# Altium footprint library cftkb.PcbLib: 28 footprints (part 2 of 2)
Each footprint in its own frame and in the unit in brackets; x right, y up, seen from the top. Pads: shape width x height; smd on the part's side, far side on the other; paste and mask are expansions set on the pad; w line width, h text height; cw(c..) or ccw(c..) is an arc to the next point about the centre after c.
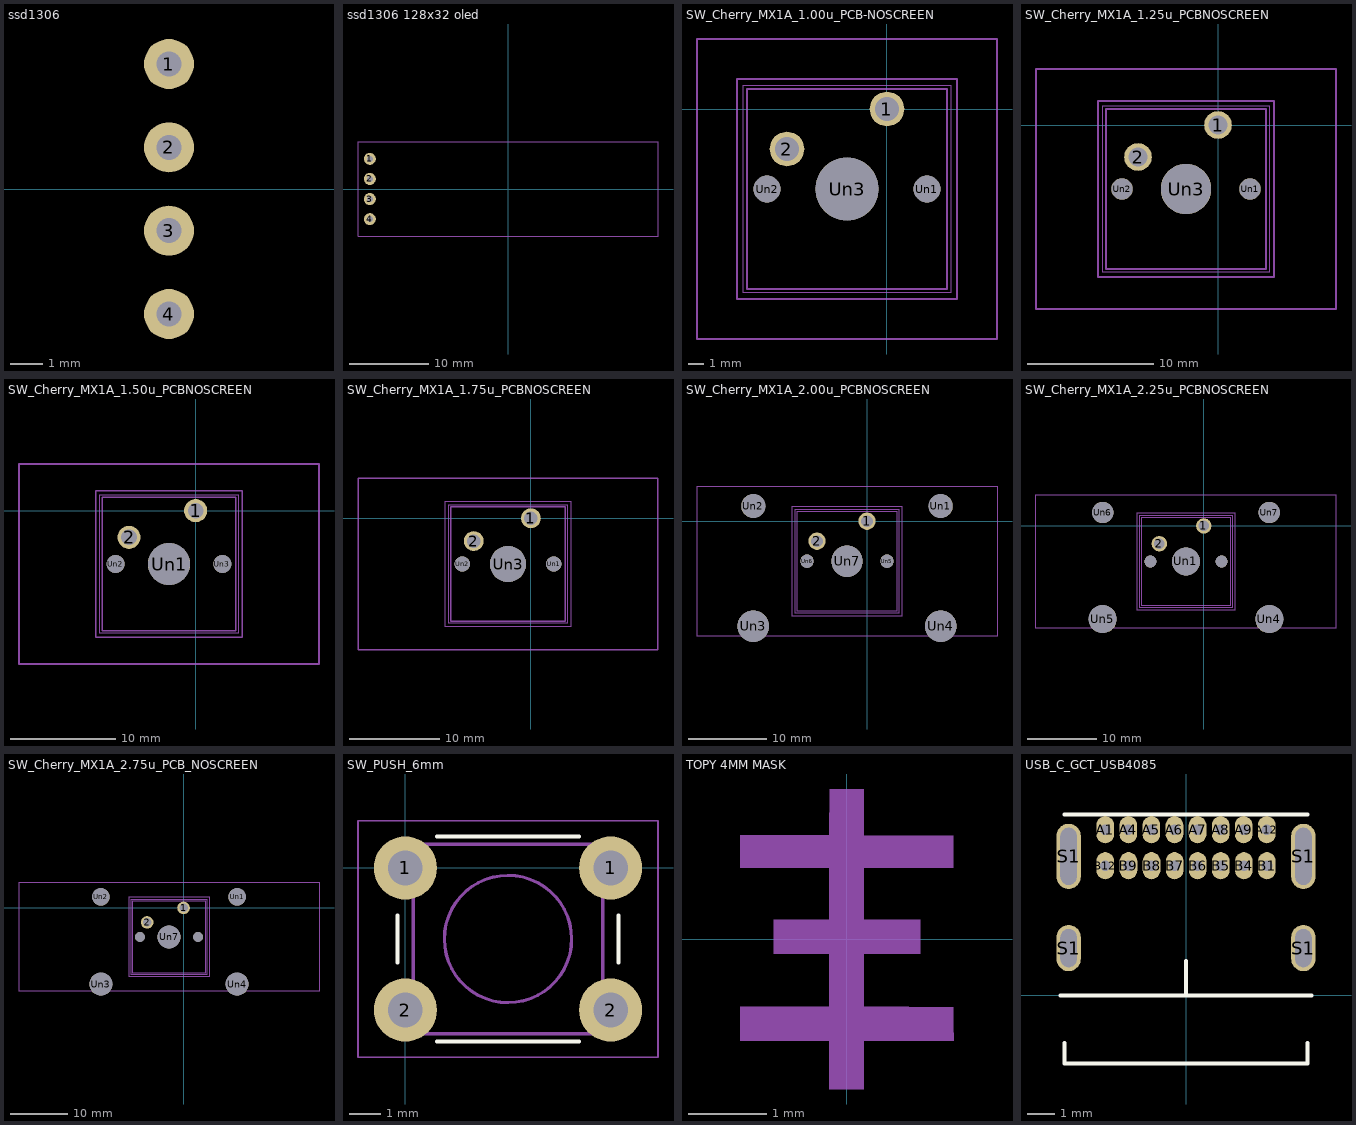
[diagram p1: the footprints below, top view; thin cyan lines are the x and y axes]

## ssd1306 [mil]
pads (4):
  round 60 hole 30: 1(-688.98,150) 2(-688.98,50) 3(-688.98,-50) 4(-688.98,-150)

## ssd1306 128x32 oled [mil]
pads (4):
  round 60 hole 30: 1(-688.98,150) 2(-688.98,50) 3(-688.98,-50) 4(-688.98,-150)
F.Fab:
  lines w5.91: -748.03,-236.22 748.03,-236.22 748.03,236.22 -748.03,236.22 -748.03,-236.22

## SW_Cherry_MX1A_1.00u_PCB-NOSCREEN [mm]
pads (5):
  round 2.2 hole 1.5: 1(0,0) 2(-6.35,-2.54)
  round 1.7 hole 1.7: Un1(2.54,-5.08) Un2(-7.62,-5.08)
  round 4 hole 4: Un3(-2.54,-5.08)
Dwgs.User:
  lines w0.12: -9.525,-12.065 4.445,-12.065 4.445,1.905 -9.525,1.905 -9.525,-12.065
  lines w0.15: -12.065,-14.605 6.985,-14.605 6.985,4.445 -12.065,4.445 -12.065,-14.605
F.CrtYd:
  lines w0.05: -9.14,-11.68 -9.14,1.52 4.06,1.52 4.06,-11.68 -9.14,-11.68
F.Fab:
  lines w0.15: -8.89,-11.43 3.81,-11.43 3.81,1.27 -8.89,1.27 -8.89,-11.43
  text "%R" at -3.573,2.144 h1

## SW_Cherry_MX1A_1.25u_PCBNOSCREEN [mm]
pads (5):
  round 2.2 hole 1.5: 1(0,0) 2(-6.35,-2.54)
  round 1.7 hole 1.7: Un1(2.54,-5.08) Un2(-7.62,-5.08)
  round 4 hole 4: Un3(-2.54,-5.08)
Dwgs.User:
  lines w0.12: -9.525,-12.065 -9.525,1.905 4.445,1.905 4.445,-12.065 -9.525,-12.065
  lines w0.15: -14.446,-14.605 -14.446,4.445 9.366,4.445 9.366,-14.605 -14.446,-14.605
F.CrtYd:
  lines w0.05: -9.14,-11.68 4.06,-11.68 4.06,1.52 -9.14,1.52 -9.14,-11.68
F.Fab:
  lines w0.15: -8.89,-11.43 -8.89,1.27 3.81,1.27 3.81,-11.43 -8.89,-11.43
  text "%R" at -3.573,2.144 h1

## SW_Cherry_MX1A_1.50u_PCBNOSCREEN [mm]
pads (5):
  round 2.2 hole 1.5: 1(0,0) 2(-6.35,-2.54)
  round 4 hole 4: Un1(-2.54,-5.08)
  round 1.7 hole 1.7: Un2(-7.62,-5.08) Un3(2.54,-5.08)
Dwgs.User:
  lines w0.12: -9.525,-12.065 4.445,-12.065 4.445,1.905 -9.525,1.905 -9.525,-12.065
  lines w0.15: -16.828,-14.605 11.747,-14.605 11.747,4.445 -16.828,4.445 -16.828,-14.605
F.CrtYd:
  lines w0.05: -9.14,-11.68 -9.14,1.52 4.06,1.52 4.06,-11.68 -9.14,-11.68
F.Fab:
  lines w0.15: -8.89,-11.43 3.81,-11.43 3.81,1.27 -8.89,1.27 -8.89,-11.43
  text "%R" at -3.573,2.144 h1

## SW_Cherry_MX1A_1.75u_PCBNOSCREEN [mm]
pads (5):
  round 2.2 hole 1.5: 1(0,0) 2(-6.35,-2.54)
  round 1.7 hole 1.7: Un1(2.54,-5.08) Un2(-7.62,-5.08)
  round 4 hole 4: Un3(-2.54,-5.08)
Dwgs.User:
  lines w0.12: -9.525,-12.065 -9.525,1.905 4.445,1.905 4.445,-12.065 -9.525,-12.065
  lines w0.15: -19.209,-14.605 -19.209,4.445 14.129,4.445 14.129,-14.605 -19.209,-14.605
F.CrtYd:
  lines w0.05: -9.14,-11.68 4.06,-11.68 4.06,1.52 -9.14,1.52 -9.14,-11.68
F.Fab:
  lines w0.15: -8.89,-11.43 -8.89,1.27 3.81,1.27 3.81,-11.43 -8.89,-11.43
  text "%R" at -3.573,2.144 h1

## SW_Cherry_MX1A_2.00u_PCBNOSCREEN [mm]
pads (9):
  round 2.2 hole 1.5: 1(0,0) 2(-6.35,-2.54)
  round 3.05 hole 3.05: Un1(9.36,1.92) Un2(-14.44,1.92)
  round 4 hole 4: Un3(-14.44,-13.32) Un4(9.36,-13.32) Un7(-2.54,-5.08)
  round 1.7 hole 1.7: Un5(2.54,-5.08) Un6(-7.62,-5.08)
Dwgs.User:
  lines w0.12: -9.525,-12.065 -9.525,1.905 4.445,1.905 4.445,-12.065 -9.525,-12.065
  lines w0.15: -21.59,-14.605 -21.59,4.445 16.51,4.445 16.51,-14.605 -21.59,-14.605
F.CrtYd:
  lines w0.05: -9.14,-11.68 4.06,-11.68 4.06,1.52 -9.14,1.52 -9.14,-11.68
F.Fab:
  lines w0.15: -8.89,-11.43 -8.89,1.27 3.81,1.27 3.81,-11.43 -8.89,-11.43
  text "%R" at -3.573,2.144 h1

## SW_Cherry_MX1A_2.25u_PCBNOSCREEN [mm]
pads (9):
  round 2.2 hole 1.5: 1(0,0) 2(-6.35,-2.54)
  round 4 hole 4: Un1(-2.54,-5.08) Un4(9.36,-13.32) Un5(-14.44,-13.32)
  round 1.7 hole 1.7: Un2(-7.62,-5.08) Un3(2.54,-5.08)
  round 3.05 hole 3.05: Un6(-14.44,1.92) Un7(9.36,1.92)
Dwgs.User:
  lines w0.12: -9.525,-12.065 4.445,-12.065 4.445,1.905 -9.525,1.905 -9.525,-12.065
  lines w0.15: -23.971,-14.605 18.891,-14.605 18.891,4.445 -23.971,4.445 -23.971,-14.605
F.CrtYd:
  lines w0.05: -9.14,-11.68 -9.14,1.52 4.06,1.52 4.06,-11.68 -9.14,-11.68
F.Fab:
  lines w0.15: -8.89,-11.43 3.81,-11.43 3.81,1.27 -8.89,1.27 -8.89,-11.43
  text "%R" at -3.573,2.144 h1

## SW_Cherry_MX1A_2.75u_PCB_NOSCREEN [mm]
pads (9):
  round 2.2 hole 1.5: 1(0,0) 2(-6.35,-2.54)
  round 3.05 hole 3.05: Un1(9.36,1.92) Un2(-14.44,1.92)
  round 4 hole 4: Un3(-14.44,-13.32) Un4(9.36,-13.32) Un7(-2.54,-5.08)
  round 1.7 hole 1.7: Un5(2.54,-5.08) Un6(-7.62,-5.08)
Dwgs.User:
  lines w0.15: -28.734,-14.605 23.654,-14.605 23.654,4.445 -28.734,4.445 -28.734,-14.605
F.CrtYd:
  lines w0.05: -9.14,-11.68 -9.14,1.52 4.06,1.52 4.06,-11.68 -9.14,-11.68
F.Fab:
  lines w0.15: -8.89,-11.43 3.81,-11.43 3.81,1.27 -8.89,1.27 -8.89,-11.43
Cmts.User:
  lines w0.12: -9.525,-12.065 4.445,-12.065 4.445,1.905 -9.525,1.905 -9.525,-12.065

## SW_PUSH_6mm [mm]
pads (4):
  round 2 hole 1.1: 1(0,0) 1(6.5,0) 2(0,-4.5) 2(6.5,-4.5)
F.SilkS:
  lines w0.12: -0.25,-3 -0.25,-1.5 ; 1,-5.5 5.5,-5.5 ; 1,1 5.5,1 ; 6.75,-3 6.75,-1.5
F.CrtYd:
  lines w0.05: -1.5,-6 -1.5,-5.75 -1.5,1.25 -1.5,1.5 -1.25,1.5 7.75,1.5 8,1.5 8,1.25 8,-5.75 8,-6 7.75,-6 -1.25,-6 -1.5,-6
F.Fab:
  circle w0.1: c3.25,-2.25 r2.016
  lines w0.1: 0.25,-5.25 6.25,-5.25 6.25,0.75 3.25,0.75 0.25,0.75 0.25,-5.25
  text "%R" at 2.217,-2.9 h1

## TOPY 4MM MASK [mm]
F.Mask:
  region: 0.22,1.321 0.79,1.319 1.359,1.317 1.359,0.91 0.22,0.906 0.22,0.246 0.94,0.246 0.94,-0.186 0.22,-0.186 0.22,-0.863 0.79,-0.866 1.359,-0.868 1.361,-1.082 1.363,-1.295 0.22,-1.295 0.22,-1.913 -0.22,-1.913 -0.22,-1.295 -1.355,-1.295 -1.355,-0.864 -0.22,-0.864 -0.22,-0.186 -0.931,-0.186 -0.931,0.246 -0.22,0.246 -0.22,0.906 -1.355,0.906 -1.355,1.321 -0.22,1.321 -0.216,1.909 0.002,1.911 0.22,1.914

## USB_C_GCT_USB4085 [mm]
pads (20):
  rrect100% 0.65x1 hole 0.4: A1(-2.975,6.1) A4(-2.125,6.1) A5(-1.275,6.1) A6(-0.425,6.1) A7(0.425,6.1) A8(1.275,6.1) A9(2.125,6.1) A12(2.975,6.1) B1(2.98,4.775) B4(2.13,4.775) B5(1.28,4.775) B6(0.43,4.775) B7(-0.42,4.775) B8(-1.27,4.775) B9(-2.12,4.775) B12(-2.975,4.775)
  rrect100% 0.9x1.7 hole 1.4 slot 0.6 at 0 deg: S1(-4.325,1.74) S1(4.325,1.74)
  rrect100% 0.9x2.4 hole 2.1 slot 0.6 at 0 deg: S1(-4.325,5.12) S1(4.325,5.12)
F.SilkS:
  lines w0.15: -4.625,0 4.625,0 ; -4.48,-1.75 -4.475,-2.51 4.475,-2.51 4.48,-1.75 ; -4.475,6.66 4.475,6.66 ; 0,0 0,1.27
3D body "Global_Connector_Technology_-_USB4085-GF-A.step": height 3.66, standoff -2.3, extent -4.475,-2.451 4.475,6.719